# Altium schematic symbol library Molex Picolock 4pos.SCHLIB: 1 symbol
Pins are listed as number, name and electrical type; pins without a type are passive.

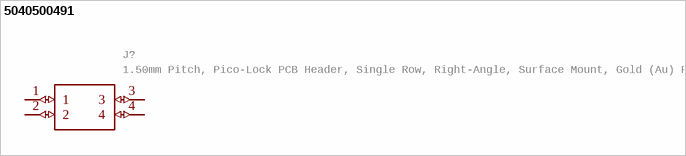
[diagram p0: symbol 5040500491]

## 5040500491
designator J?, comment 1.50mm Pitch, Pico-Lock PCB Header, Single Row, Right-Angle, Surface Mount, Gold (Au) Plating, Positive Lock, 4 Circuits, Tape and Reel   Source:  Datasheet
Manufacturer_Name: Molex; GateName_1: G$1; SymbolName_1: 5040500491; LibraryName: Molex Picolock 4pos; DeviceSetName: 5040500491; Package: 5040500491; Manufacturer_Part_Number: 5040500491; Arrow_Part_Number: 5040500491; Arrow_Price-Stock: https://www.arrow.com/en/products/5040500491/molex; Description: 1.50mm Pitch, Pico-Lock PCB Header, Single Row, Right-Angle, Surface Mount, Gold (Au) Plating, Positive Lock, 4 Circuits, Tape and Reel; Height: 2mm
footprint 5040500491
pins: 1 (io), 2 (io), 3 (io), 4 (io)